# Altium schematic symbol library Schlib1.SchLib: 1 symbol
Pins are listed as number, name and electrical type; pins without a type are passive.

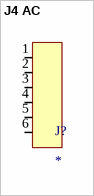
[diagram p0: symbol J4 AC]

## J4 AC
designator J?
footprint J4 AC
pins: 1, 2, 3, 4, 5, 6